# EAGLE library part TA7291P (library MyLib)
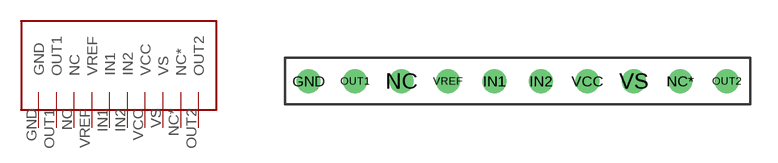
[diagram p1: symbol with the pads of TA7291P; footprint TA7291P]

Designator prefix -

## TA7291P  [TA7291P]
GND  GND
IN1  IN1
IN2  IN2
NC  NC
NC*  NC*
OUT1  OUT1
OUT2  OUT2
VCC  VCC
VREF  VREF
VS  VS

## Footprint TA7291P (pad centres in mm)
drill 0.8: GND -12.7,0; IN1 -2.54,0; IN2 0,0; NC -7.62,0; NC* 7.62,0; OUT1 -10.16,0; OUT2 10.16,0; VCC 2.54,0; VREF -5.08,0; VS 5.08,0